# EAGLE library part JST-06 (library con-jst-gh)
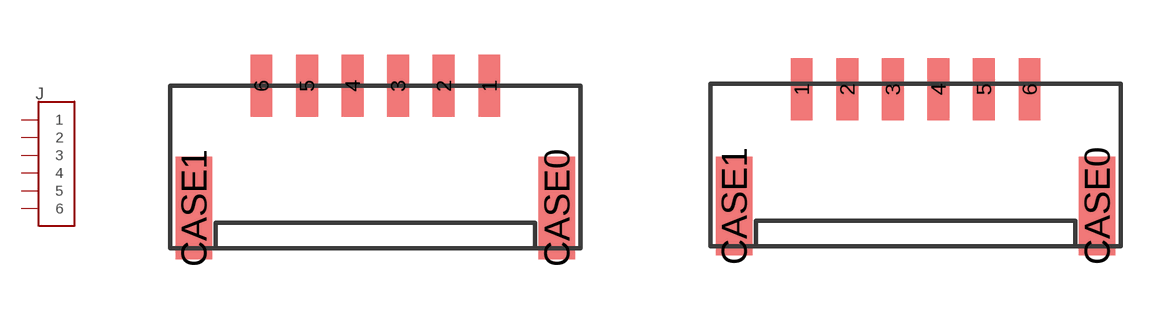
[diagram p4: symbol with the pads of BM06B-GHS; footprints BM06B-GHS, SM06B-GHS]

Designator prefix J

## JST-06TOP  [BM06B-GHS]
1  1
2  2
3  3
4  4
5  5
6  6

## JST-06SIDE  [SM06B-GHS]
Pads as for BM06B-GHS

## Footprint BM06B-GHS (pad centres in mm)
smd 0.6 x 1.7: 1 3.125,2.5; 2 1.875,2.5; 3 0.625,2.5; 4 -0.625,2.5; 5 -1.875,2.5; 6 -3.125,2.5
smd 1 x 2.8: CASE0 4.975,-0.85; CASE1 -4.975,-0.85

## Footprint SM06B-GHS (pad centres in mm)
smd 0.6 x 1.7: 1 -3.125,2.05; 2 -1.875,2.05; 3 -0.625,2.05; 4 0.625,2.05; 5 1.875,2.05; 6 3.125,2.05
smd 1 x 2.7: CASE0 4.975,-1.15; CASE1 -4.975,-1.15